# EAGLE library part MAX4737EUD+ (library MAX4737EUD+)
Analog Switch ICs 4.5Ohm Quad SPST Analog Switch Source: Datasheet
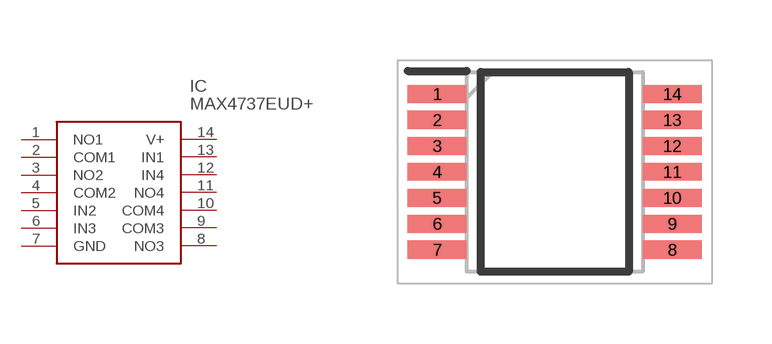
[diagram p0: symbol with the pads of SOP65P640X110-14N; footprint SOP65P640X110-14N]

Designator prefix IC

## MAX4737EUD+ (Description: Analog Switch ICs 4.5Ohm Quad SPST Analog Switch; Height: 1.1mm; Manufacturer_Name: Analog Devices; Manufacturer_Part_Number: MAX4737EUD+; Mouser_Part_Number: 700-MAX4737EUD; Mouser_Price-Stock: https://www.mouser.co.uk/ProductDetail/Analog-Devices-Maxim-Integrated/MAX4737EUD%2b?qs=LHmEVA8xxfbKICdohzHcgA%3D%3D)  [SOP65P640X110-14N]
1  NO1
2  COM1
3  NO2
4  COM2
5  IN2  in
6  IN3  in
7  GND  pwr
8  NO3
9  COM3
10  COM4
11  NO4
12  IN4  in
13  IN1  in
14  V+

## Footprint SOP65P640X110-14N (pad centres in mm)
Max 21-0066
smd 1.475 x 0.45: 1 -2.938,1.95; 2 -2.938,1.3; 3 -2.938,0.65; 4 -2.938,0; 5 -2.938,-0.65; 6 -2.938,-1.3; 7 -2.938,-1.95; 8 2.938,-1.95; 9 2.938,-1.3; 10 2.938,-0.65; 11 2.938,0; 12 2.938,0.65; 13 2.938,1.3; 14 2.938,1.95